# EAGLE library part 61002621121 (library Board_to_Board_Connectors_rev15d)
WR-PHD 2.54mm Dual SMT Pin Header, 26 Pins =>Code : Con_BTB_PHD_2.54_2_61002621121 <http://katalog.we-online.de/media/images/eican/Con_BTB_PHD_2.54_2_6100xx21121_pf2.jpg> Details see: http://katalog.we-online.de/en/em/610_0xx_211_21 Created 2014-05-29, Karrer Zheng 2014 (C) Würth Elektronik
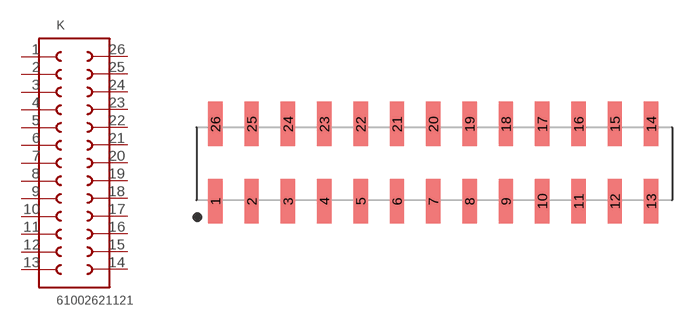
[diagram p83: symbol with the pads of 61002621121; footprint 61002621121]

Designator prefix K

## 61002621121  [61002621121]
1  1  pas
2  2  pas
3  3  pas
4  4  pas
5  5  pas
6  6  pas
7  7  pas
8  8  pas
9  9  pas
10  10  pas
11  11  pas
12  12  pas
13  13  pas
14  14  pas
15  15  pas
16  16  pas
17  17  pas
18  18  pas
19  19  pas
20  20  pas
21  21  pas
22  22  pas
23  23  pas
24  24  pas
25  25  pas
26  26  pas

## Footprint 61002621121 (pad centres in mm)
WR-PHD 2.54mm Dual SMT Pin Header, 26 Pins
smd 1 x 3.1: 1 -15.24,-2.7; 2 -12.7,-2.7; 3 -10.16,-2.7; 4 -7.62,-2.7; 5 -5.08,-2.7; 6 -2.54,-2.7; 7 0,-2.7; 8 2.54,-2.7; 9 5.08,-2.7; 10 7.62,-2.7; 11 10.16,-2.7; 12 12.7,-2.7; 13 15.24,-2.7; 14 15.24,2.7; 15 12.7,2.7; 16 10.16,2.7; 17 7.62,2.7; 18 5.08,2.7; 19 2.54,2.7; 20 0,2.7; 21 -2.54,2.7; 22 -5.08,2.7; 23 -7.62,2.7; 24 -10.16,2.7; 25 -12.7,2.7; 26 -15.24,2.7